# Altium schematic symbol library ARDUINO_PRO_MINI.Schlib: 1 symbol
Pins are listed as number, name and electrical type; pins without a type are passive.

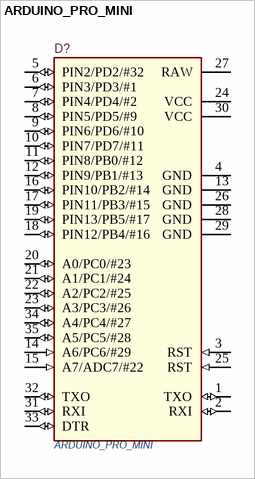
[diagram p0: symbol ARDUINO_PRO_MINI]

## ARDUINO_PRO_MINI
designator D?
ATMEGA328 ARDUINO PRO MINI 3.3V; Manufacturer 1: SparkFun; Manufacturer Part Number 1: DEV-11114; Supplier 1: Digi-Key; Stock 1: 569; Pricing 1: 1=9.95000 (USD); RoHS: No; Supplier Part Number 1: 1568-1054-ND
footprint DEV-11114 (ARDUINO PRO MINI 328 3.3V/8MHZ)
pins: 1 TXO (io), 2 RXI (io), 3 RST (in), 4 GND (power), 5 PIN2/PD2/#32 (io), 6 PIN3/PD3/#1 (io), 7 PIN4/PD4/#2 (io), 8 PIN5/PD5/#9 (io), 9 PIN6/PD6/#10 (io), 10 PIN7/PD7/#11 (io), 11 PIN8/PB0/#12 (io), 12 PIN9/PB1/#13 (io), 13 GND (power), 14 A6/PC6/#29 (in), 15 A7/ADC7/#22 (in), 16 PIN10/PB2/#14 (io), 17 PIN11/PB3/#15 (io), 18 PIN12/PB4/#16 (io), 19 PIN13/PB5/#17 (io), 20 A0/PC0/#23 (io), 21 A1/PC1/#24 (io), 22 A2/PC2/#25 (io), 23 A3/PC3/#26 (io), 24 VCC (power), 25 RST (in), 26 GND (power), 27 RAW (power), 28 GND (power), 29 GND (power), 30 VCC (power), 31 RXI (io), 32 TXO (io), 33 DTR (io), 34 A4/PC4/#27 (io), 35 A5/PC5/#28 (io)